# Altium footprint library SN65240PWG4.PcbLib: 1 footprints
Each footprint in its own frame and in the unit in brackets; x right, y up, seen from the top. Pads: shape width x height; smd on the part's side, far side on the other; paste and mask are expansions set on the pad; w line width, h text height; cw(c..) or ccw(c..) is an arc to the next point about the centre after c.
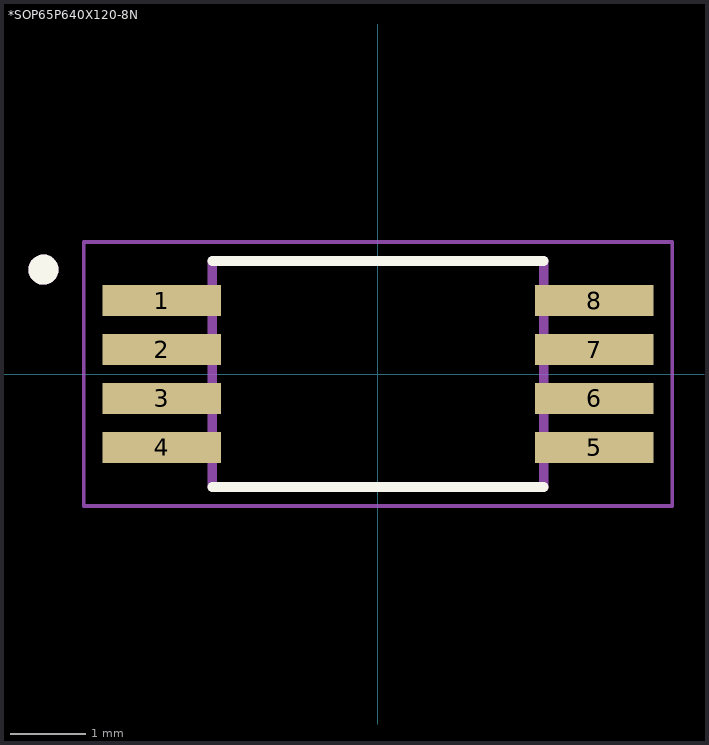
[diagram p0: the footprint, top view; thin cyan lines are the x and y axes]

## *SOP65P640X120-8N [mm]
pads (8):
  rect 1.57x0.41 smd: 1(-2.87,0.975) 2(-2.87,0.325) 3(-2.87,-0.325) 4(-2.87,-0.975) 5(2.87,-0.975) 6(2.87,-0.325) 7(2.87,0.325) 8(2.87,0.975)
Top Overlay:
  circle w0.2: c-4.44,1.385 r0.1
  lines w0.127: -2.2,-1.5 2.2,-1.5 ; -2.2,1.5 2.2,1.5
Mechanical 4:
  circle w0.2: c-4.44,1.385 r0.1
  circle w0.2: c-4.44,1.385 r0.1
  lines w0.127: -2.2,-1.5 2.2,-1.5 ; -2.2,-1.5 -2.2,1.5 ; -2.2,-1.5 2.2,-1.5 ; -2.2,-1.5 -2.2,1.5 ; -2.2,1.5 2.2,1.5 ; -2.2,1.5 2.2,1.5 ; 2.2,-1.5 2.2,1.5 ; 2.2,-1.5 2.2,1.5
Mechanical 16:
  lines w0.05: -3.905,-1.75 3.905,-1.75 3.905,1.75 -3.905,1.75 -3.905,-1.75